# Altium footprint library Keystone.PcbLib: 5 footprints
Each footprint in its own frame and in the unit in brackets; x right, y up, seen from the top. Pads: shape width x height; smd on the part's side, far side on the other; paste and mask are expansions set on the pad; w line width, h text height; cw(c..) or ccw(c..) is an arc to the next point about the centre after c.
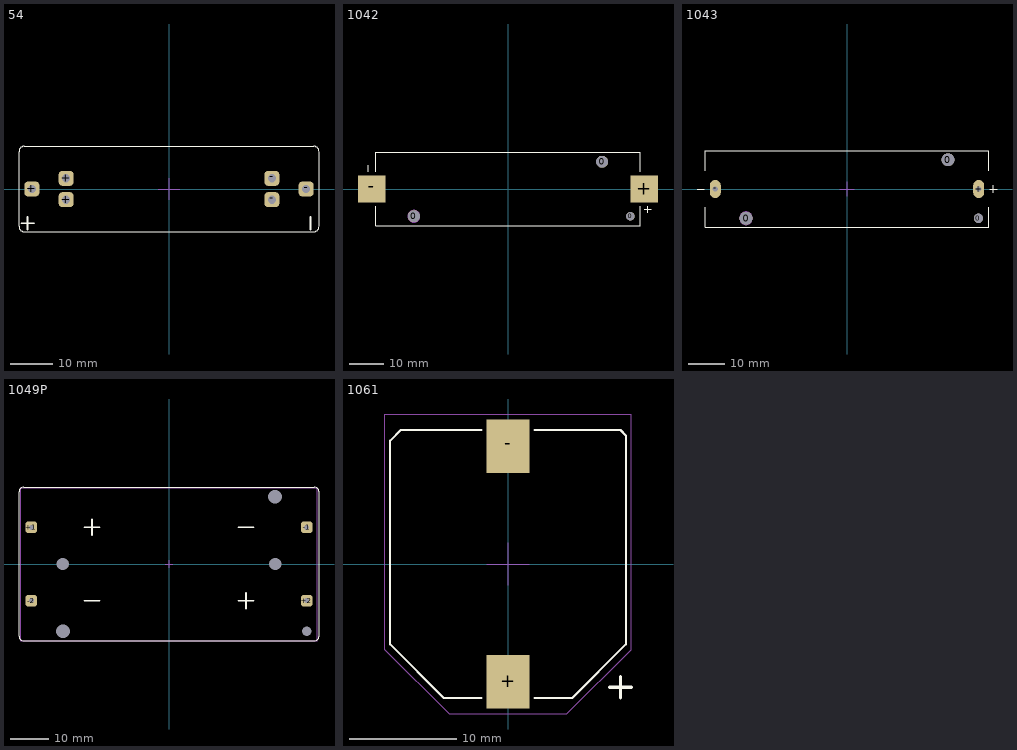
[diagram p0: the footprints below, top view; thin cyan lines are the x and y axes]

## 54 [mm] "Battery Holder, 1x18650, THT"
pads (6):
  rrect50% 3.5x3.5 hole 1.9: +(-32,0) +(-24,-2.5) +(-24,2.5) -(24,-2.5) -(24,2.5) -(32,0)
Top Overlay:
  lines w0.2: -35,-8.73 ccw(c-33.73,-8.73) -33.73,-10 33.73,-10 ccw(c33.73,-8.73) 35,-8.73 35,8.73 ccw(c33.73,8.73) 33.73,10 -32.5,10 -33.73,10 ccw(c-33.73,8.73) -35,8.73 -35,-8.73
  lines w0.4: -34.5,-8 -31.5,-8 ; -33,-9.5 -33,-6.5 ; 33,-9.5 33,-6.5
Mechanical 15:
  lines w0.1: -2.5,0 2.5,0 ; 0,-2.5 0,2.5
3D body "KEYELCO_54.STEP": height 18.16, standoff -3.05, extent -35.42,-9.443 -22.413,9.444
3D body "KEYELCO_54.STEP": height 18.16, standoff -3.05, extent 22.413,-9.445 35.42,9.443
3D body "Battery Samsung ICR 18650 -22E.stp": height 19.67, standoff 1.67, extent -32.5,-9 32.5,9

## 1042 [mm] "Battery Holder, 1x18650, SMT"
pads (5):
  round 3.5 hole 3.5: 0(-27.6,-8) 0(27.6,8)
  round 2.5 hole 2.5: 0(35.9,-8)
  rect 8x8 smd: +(40,0) -(-40,0)
Top Overlay:
  lines w0.3: -41,5 -41,7 ; -38.75,-5 -38.75,-10.75 38.75,-10.75 38.75,-5 ; -38.75,5 -38.75,10.75 38.75,10.75 38.75,5 ; 40,-6 42,-6 ; 41,-7 41,-5
Mechanical 1:
  circle w0.1: c-27.6,-8 r1.75
3D body "keystone-PN1042.STEP": height 15.11, standoff -3.18, extent -43.002,-10.3 43.002,10.35
3D body "Battery Samsung ICR 18650 -22E.stp": height 19.67, standoff 1.67, extent -33,-9 32,9

## 1043 [mm] "Battery Holder, 1x18650, THT"
pads (5):
  round 3.5 hole 3.5: 0(-27.6,-8) 0(27.6,8)
  round 2.5 hole 2.5: 0(35.9,-8)
  oval 3x5 hole 1.5: +(36,0) -(-36,0)
Top Overlay:
  lines w0.2: -41,0 -39,0 ; -38.75,-5 -38.75,-10.5 38.75,-10.5 38.75,-5 ; -38.75,5 -38.75,10.5 38.75,10.5 38.75,5 ; 39,0 41,0 ; 40,-1 40,1
Mechanical 1:
  circle w0.1: c-27.6,-8 r1.75
Mechanical 15:
  lines w0.1: -2,0 2,0 ; 0,-2 0,2
3D body "KEYELCO_1043.STEP": height 14.86, standoff -3.61, extent -38.527,-10.325 38.527,10.325
3D body "Battery Samsung ICR 18650 -22E.stp": height 19.67, standoff 1.67, extent -33,-9 32,9

## 1049P [mm] "Battery Holder; 2x18650; Polarized; THM"
pads (9):
  rrect50% 0x0 hole 3.6: 0(-27.6,-17.5) 0(27.6,17.5)
  rrect50% 0x0 hole 3.2: 0(-27.6,0) 0(27.6,0)
  rrect50% 0x0 hole 2.5: 0(35.8,-17.5)
  rrect50% 3x3 hole 1.3: +1(-35.8,9.55) +2(35.8,-9.55) -1(35.8,9.55) -2(-35.8,-9.55)
Top Overlay:
  lines w0.2: -39,-18.73 ccw(c-37.73,-18.73) -37.73,-20 37.73,-20 ccw(c37.73,-18.73) 39,-18.73 39,18.73 ccw(c37.73,18.73) 37.73,20 -35,20 -37.73,20 ccw(c-37.73,18.73) -39,18.73 -39,-18.73
  lines w0.5: -22,-9.55 -18,-9.55 ; -22,9.55 -18,9.55 ; -20,7.55 -20,11.55 ; 18,-9.55 22,-9.55 ; 18,9.55 22,9.55 ; 20,-11.55 20,-7.55
Mechanical 13:
  lines w0.1: -38.528,-19.925 -38.528,19.851 38.528,19.851 38.528,-19.925 -38.528,-19.925
Mechanical 15:
  lines w0.1: -1,0 1,0 ; 0,-1 0,1
3D body "18650.stp": height 18, standoff 0, extent -35.115,0.463 32.115,18.463
3D body "18650.stp": height 18, standoff 0, extent -32.365,-18.787 34.865,-0.787
3D body "keystone-PN1049P.STEP": height 14.91, standoff -3.56, extent -38.528,-19.925 38.528,19.851

## 1061 [mm] "Battery holder, 20mm, 1 cell of type 2032"
height 8
pads (2):
  rect 4x5 smd: +(0,-11) -(0,11)
Top Overlay:
  lines w0.2: -2.5,-12.5 -6,-12.5 -11,-7.5 -11,11.5 -10,12.5 -2.5,12.5 ; 2.5,-12.5 6,-12.5 11,-7.5 11,12 10.5,12.5 2.5,12.5
  lines w0.3: 9.5,-11.5 11.5,-11.5 ; 10.5,-12.5 10.5,-10.5
Mechanical 15:
  lines w0.05: -11.5,-8 -5.5,-14 5.5,-14 11.5,-8 11.5,0 11.5,14 -11.5,14 -11.5,-8
  lines w0.1: -2,0 2,0 ; 0,-2 0,2
3D body: height 6.5, standoff 0, extent -11,-12.5 11,12.5